# EAGLE library part RFM23B (library Eagle-JeeLabs)
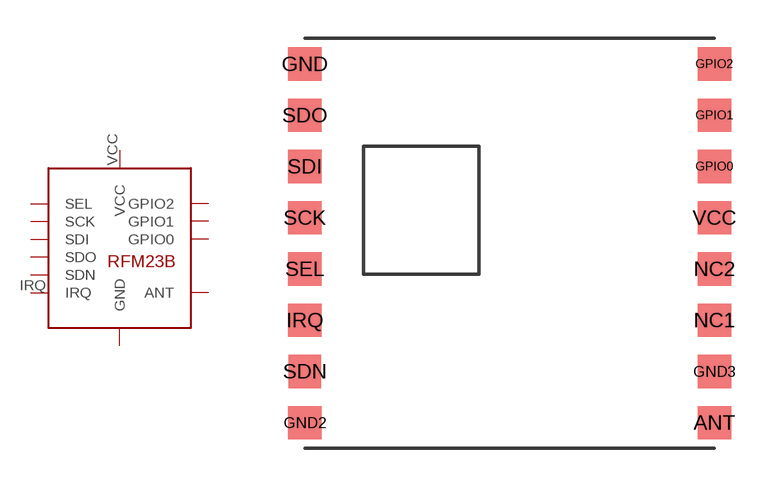
[diagram p28: symbol with the pads of RFM23B; footprint RFM23B]

Designator prefix -

## RFM23B  [RFM23B]
ANT  ANT  pas
GND  GND  pwr
GPIO0  GPIO0
GPIO1  GPIO1
GPIO2  GPIO2
IRQ  IRQ  oc
SCK  SCK  in
SDI  SDI  in
SDN  SDN  in
SDO  SDO  out
SEL  SEL  in
VCC  VCC  pwr

## Footprint RFM23B (pad centres in mm)
smd 1.3 x 1.3: ANT 8,-7; GND -8,7; GND2 -8,-7; GND3 8,-5; GPIO0 8,3; GPIO1 8,5; GPIO2 8,7; IRQ -8,-3; NC1 8,-3; NC2 8,-1; SCK -8,1; SDI -8,3; SDN -8,-5; SDO -8,5; SEL -8,-1; VCC 8,1